# Altium schematic symbol library TL431IDBVR.SchLib: 1 symbol
Pins are listed as number, name and electrical type; pins without a type are passive.

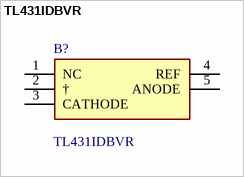
[diagram p0: symbol TL431IDBVR]

## TL431IDBVR
designator B?
2% Accuracy Adjustable Precision Shunt Regulator; Manufacturer_Name: Texas Instruments; Geometry.Height: 1.45mm; Mouser Part Number: 595-TL431IDBVR; Mouser Price/Stock: https://www.mouser.co.uk/ProductDetail/Texas-Instruments/TL431IDBVR?qs=tJ5HNKWh3OWJ%2FSshA3ZRGQ%3D%3D; Manufacturer_Part_Number: TL431IDBVR; Datasheet Link: http://www.ti.com/lit/gpn/tl431
footprint SOT95P280X145-5N
pins: 1 NC, 2 †, 3 CATHODE, 4 REF, 5 ANODE